# Altium footprint library PcbLib1.PcbLib: 14 footprints
Each footprint in its own frame and in the unit in brackets; x right, y up, seen from the top. Pads: shape width x height; smd on the part's side, far side on the other; paste and mask are expansions set on the pad; w line width, h text height; cw(c..) or ccw(c..) is an arc to the next point about the centre after c.
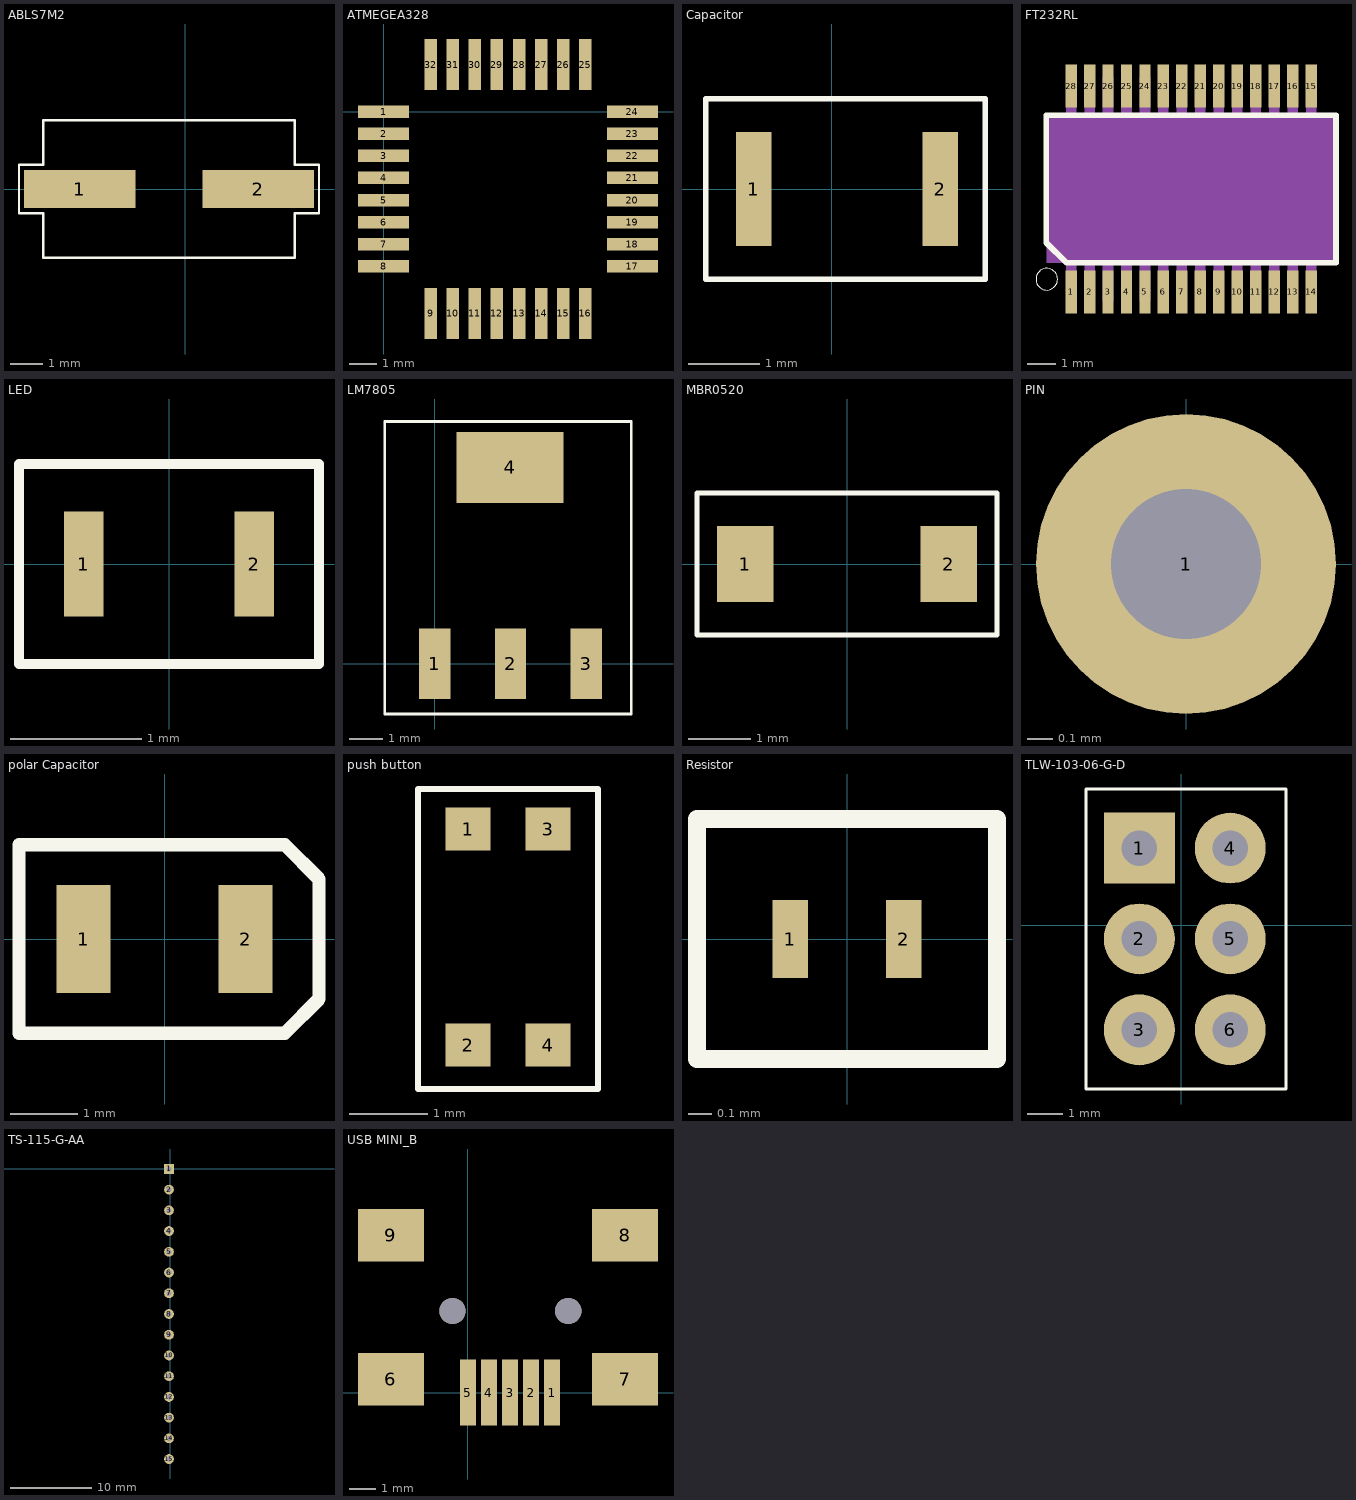
[diagram p0: the footprints below, top view; thin cyan lines are the x and y axes]

## ABLS7M2 [mm]
pads (2):
  rect 3.5x1.2 smd: 1(-3.302,0) 2(2.286,0)
Top Overlay:
  lines w0.076: -5.207,-0.762 -5.207,0.762 -4.445,0.762 -4.445,2.159 3.429,2.159 3.429,0.762 4.191,0.762 4.191,-0.762 3.429,-0.762 3.429,-2.159 -4.445,-2.159 -4.445,-0.762 -5.207,-0.762
3D body "ABLS7M2-25.000MHZ-D-2Y-T--3DModel-STEP-400430.STEP": height 1.9, standoff 0, extent -4.298,-2.05 3.302,2.05

## ATMEGEA328 [mm]
pads (32):
  rect 1.85x0.45 smd: 1(0,0) 2(0,-0.8) 3(0,-1.6) 4(0,-2.4) 5(0,-3.2) 6(0,-4) 7(0,-4.8) 8(0,-5.6) 17(9,-5.6) 18(9,-4.8) 19(9,-4) 20(9,-3.2) 21(9,-2.4) 22(9,-1.6) 23(9,-0.8) 24(9,0)
  rect 0.45x1.85 smd: 9(1.7,-7.3) 10(2.5,-7.3) 11(3.3,-7.3) 12(4.1,-7.3) 13(4.9,-7.3) 14(5.7,-7.3) 15(6.5,-7.3) 16(7.3,-7.3) 25(7.3,1.7) 26(6.5,1.7) 27(5.7,1.7) 28(4.9,1.7) 29(4.1,1.7) 30(3.3,1.7) 31(2.5,1.7) 32(1.7,1.7)
3D body "ATMEGA328-AU.STEP": height 1.2, standoff 0, extent -0.004,-7.294 8.996,1.706

## Capacitor [mm]
pads (2):
  rect 0.5x1.6 smd: 1(-1.1,0) 2(1.524,0)
Top Overlay:
  lines w0.076: -1.778,-1.27 2.159,-1.27 2.159,1.27 -1.778,1.27 -1.778,-1.27
3D body "GRM3195C2A563GA01D.STEP": height 0.95, standoff 0, extent -1.397,-0.8 1.803,0.8

## FT232RL [mm]
pads (28):
  rect 0.4x1.5 smd: 1(10.38,-12.769) 2(11.03,-12.769) 3(11.68,-12.769) 4(12.33,-12.769) 5(12.98,-12.769) 6(13.63,-12.769) 7(14.28,-12.769) 8(14.93,-12.769) 9(15.58,-12.769) 10(16.23,-12.769) 11(16.88,-12.769) 12(17.53,-12.769) 13(18.18,-12.769) 14(18.83,-12.769) 15(18.83,-5.519) 16(18.18,-5.519) 17(17.53,-5.519) 18(16.88,-5.519) 19(16.23,-5.519) 20(15.58,-5.519) 21(14.93,-5.519) 22(14.28,-5.519) 23(13.63,-5.519) 24(12.98,-5.519) 25(12.33,-5.519) 26(11.68,-5.519) 27(11.03,-5.519) 28(10.38,-5.519)
Top Overlay:
  circle w0: c9.525,-12.319 r0.381
  lines w0.203: 9.505,-11.034 9.505,-6.544 19.705,-6.544 19.705,-11.744 10.215,-11.744 9.505,-11.034
Mechanical 13:
  region: 10.558,-13.081 10.202,-13.081 10.202,-11.786 10.558,-11.786
  region: 11.208,-13.081 10.852,-13.081 10.852,-11.786 11.208,-11.786
  region: 11.858,-13.081 11.502,-13.081 11.502,-11.786 11.858,-11.786
  region: 12.508,-13.081 12.152,-13.081 12.152,-11.786 12.508,-11.786
  region: 13.158,-13.081 12.802,-13.081 12.802,-11.786 13.158,-11.786
  region: 13.808,-13.081 13.452,-13.081 13.452,-11.786 13.808,-11.786
  region: 14.458,-13.081 14.102,-13.081 14.102,-11.786 14.458,-11.786
  region: 15.108,-13.081 14.752,-13.081 14.752,-11.786 15.108,-11.786
  region: 15.758,-13.081 15.402,-13.081 15.402,-11.786 15.758,-11.786
  region: 16.408,-13.081 16.052,-13.081 16.052,-11.786 16.408,-11.786
  region: 17.058,-13.081 16.702,-13.081 16.702,-11.786 17.058,-11.786
  region: 17.708,-13.081 17.352,-13.081 17.352,-11.786 17.708,-11.786
  region: 18.358,-13.081 18.002,-13.081 18.002,-11.786 18.358,-11.786
  region: 19.008,-13.081 18.652,-13.081 18.652,-11.786 19.008,-11.786
  region: 19.008,-6.502 18.652,-6.502 18.652,-5.207 19.008,-5.207
  region: 18.358,-6.502 18.002,-6.502 18.002,-5.207 18.358,-5.207
  region: 17.708,-6.502 17.352,-6.502 17.352,-5.207 17.708,-5.207
  region: 17.058,-6.502 16.702,-6.502 16.702,-5.207 17.058,-5.207
  region: 16.408,-6.502 16.052,-6.502 16.052,-5.207 16.408,-5.207
  region: 15.758,-6.502 15.402,-6.502 15.402,-5.207 15.758,-5.207
  region: 15.108,-6.502 14.752,-6.502 14.752,-5.207 15.108,-5.207
  region: 14.458,-6.502 14.102,-6.502 14.102,-5.207 14.458,-5.207
  region: 13.808,-6.502 13.452,-6.502 13.452,-5.207 13.808,-5.207
  region: 13.158,-6.502 12.802,-6.502 12.802,-5.207 13.158,-5.207
  region: 12.508,-6.502 12.152,-6.502 12.152,-5.207 12.508,-5.207
  region: 11.858,-6.502 11.502,-6.502 11.502,-5.207 11.858,-5.207
  region: 11.208,-6.502 10.852,-6.502 10.852,-5.207 11.208,-5.207
  region: 10.558,-6.502 10.202,-6.502 10.202,-5.207 10.558,-5.207
Mechanical 15:
  region: 19.685,-11.744 9.525,-11.744 9.525,-6.544 19.685,-6.544
3D body "step_temp.STEP": height 2, standoff 0, extent 9.505,-13.044 19.705,-5.244

## LED [mm]
pads (2):
  rect 0.3x0.8 smd: 1(-0.65,0) 2(0.65,0)
Top Overlay:
  lines w0.076: -1.143,-0.762 1.143,-0.762 1.143,0.762 -1.143,0.762 -1.143,-0.762
3D body "LTST-C193KRKT-5A--3DModel-STEP-56544.STEP": height 0.35, standoff 0, extent -0.8,-0.4 0.8,0.4

## LM7805 [mm]
pads (4):
  rect 0.95x2.15 smd: 1(0,0) 2(2.3,0) 3(4.6,0)
  rect 3.25x2.15 smd: 4(2.286,5.969)
Top Overlay:
  lines w0.076: -1.524,-1.524 5.969,-1.524 5.969,7.366 -1.524,7.366 -1.524,-1.524
3D body "LM7805MP_NOPB.STEP": height 1.8, standoff 0, extent -0.964,-0.578 5.536,6.42

## MBR0520 [mm]
pads (2):
  rect 0.91x1.22 smd: 1(-1.635,0) 2(1.635,0)
Top Overlay:
  lines w0.076: -2.413,-1.143 2.413,-1.143 2.413,1.143 -2.413,1.143 -2.413,-1.143
3D body "MBR0520.STEP": height 1.48, standoff 0.03, extent -1.825,-0.775 1.825,0.775

## PIN [mm]
pads (1):
  round 1.2 hole 0.6: 1(0,0)

## polar Capacitor [mm]
pads (2):
  rect 0.8x1.6 smd: 1(-1.2,0) 2(1.2,0)
Top Overlay:
  lines w0.2: -2.159,-1.397 -2.159,1.397 1.778,1.397 2.286,0.889 2.286,-0.889 1.778,-1.397 -2.159,-1.397
3D body "TAJA475K016UNJ--3DModel-STEP-269445.STEP": height 1.8, standoff 0, extent -1.6,-0.8 1.6,0.8

## push button [mm]
pads (4):
  rect 0.57x0.55 smd: 1(1.778,5.715) 2(1.778,2.972) 3(2.794,5.715) 4(2.794,2.972)
Top Overlay:
  lines w0.076: 1.143,2.413 3.429,2.413 3.429,6.223 1.143,6.223 1.143,2.413
3D body "USLPT2819DT2TR--3DModel-STEP-56544.STEP": height 0.6, standoff 0, extent 1.336,2.842 3.236,5.842

## Resistor [mm]
pads (2):
  rect 0.15x0.33 smd: 1(-0.24,0) 2(0.24,0)
Top Overlay:
  lines w0.076: -0.635,-0.508 0.635,-0.508 0.635,0.508 -0.635,0.508 -0.635,-0.508
3D body "ERJ-U01J240C.STEP": height 0.23, standoff 0, extent -0.3,-0.15 0.3,0.15

## TLW-103-06-G-D [mil]
pads (6):
  rect 78x78 hole 39: 1(-46.32,85.03)
  round 78 hole 39: 2(-46.32,-14.97) 3(-46.32,-114.97) 4(53.68,85.03) 5(53.68,-14.97) 6(53.68,-114.97)
Top Overlay:
  lines w3: -105,-180 115,-180 115,150 -105,150 -105,-180
3D body "TLW-103-06-G-D.stp": height 195, standoff -105, extent -95,-165 103,135

## TS-115-G-AA [mm]
pads (15):
  rect 1.2x1.2 hole 0.6: 1(-0.127,0)
  round 1.2 hole 0.6: 2(-0.127,-2.54) 3(-0.127,-5.08) 4(-0.127,-7.62) 5(-0.127,-10.16) 6(-0.127,-12.7) 7(-0.127,-15.24) 8(-0.127,-17.78) 9(-0.127,-20.32) 10(-0.127,-22.86) 11(-0.127,-25.4) 12(-0.127,-27.94) 13(-0.127,-30.48) 14(-0.127,-33.02) 15(-0.127,-35.56)
3D body "TS-115-G-AA.stp": height 3.48, standoff -8.64, extent -1.397,-36.932 1.143,1.372

## USB MINI_B [mm]
pads (11):
  rect 0.6x2.5 smd: 1(3.2,0) 2(2.4,0) 3(1.6,0) 4(0.8,0) 5(0,0)
  rect 2.5x2 smd: 6(-2.921,0.508) 7(5.969,0.508) 8(5.969,5.969) 9(-2.921,5.969)
  round 1 hole 1 unplated: ""(-0.584,3.099) ""(3.81,3.099)
3D body "MUSB-05-F-AB-SM-A.stp": height 3.9, standoff -1.1, extent -3.392,-0.559 6.604,8.941